# Altium footprint library MicromouseLib.PcbLib: 42 footprints (part 2 of 3)
Each footprint in its own frame and in the unit in brackets; x right, y up, seen from the top. Pads: shape width x height; smd on the part's side, far side on the other; paste and mask are expansions set on the pad; w line width, h text height; cw(c..) or ccw(c..) is an arc to the next point about the centre after c.
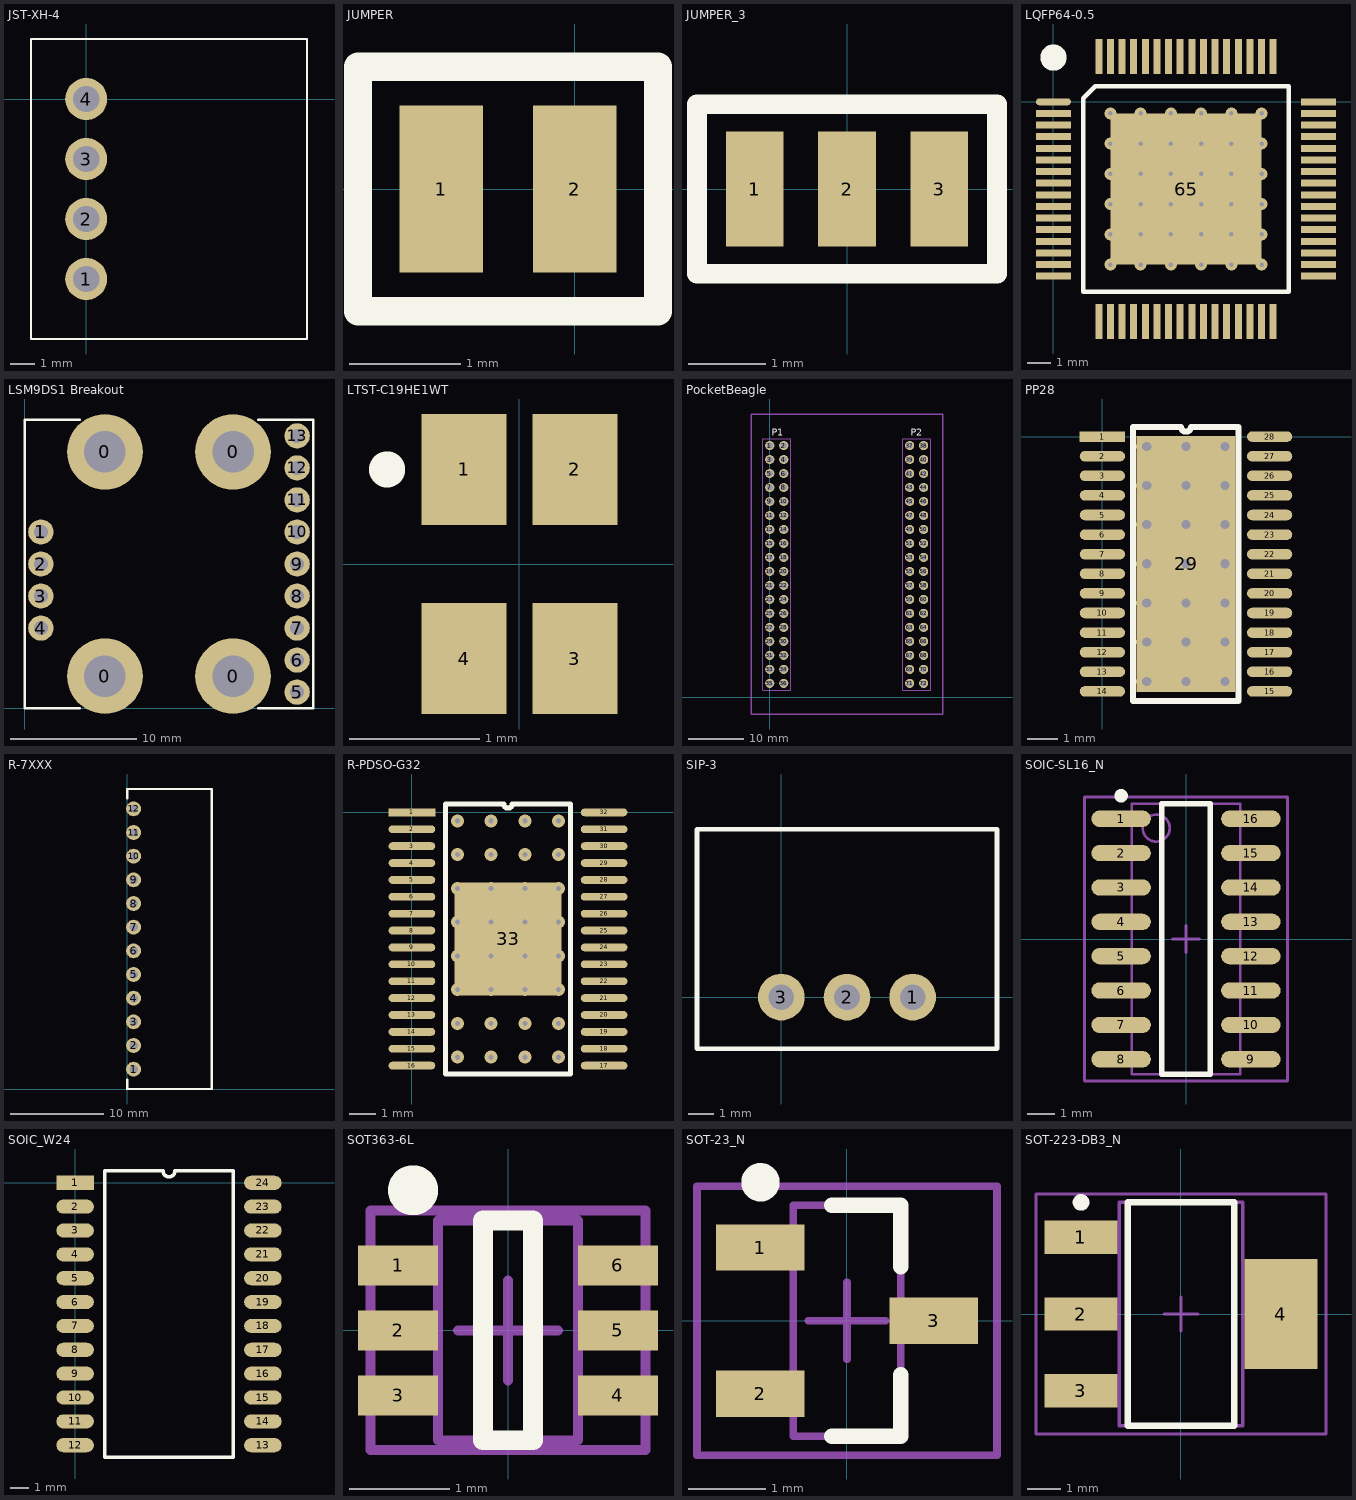
[diagram p1: the footprints below, top view; thin cyan lines are the x and y axes]

## JST-XH-4 [mm]
height 6.1
pads (4):
  round 1.75 hole 1.1: 1(0,-7.5) 2(0,-5) 3(0,-2.5) 4(0,0)
Top Overlay:
  lines w0.076: -2.3,-10 -2.3,2.5 9.2,2.5 9.2,-10 -2.3,-10
3D body "S4B-XH-A (WHITE).stp": height 6.15, standoff -3.4, extent -2.3,-9.951 9.2,2.449

## JUMPER [mm]
pads (2):
  rect 0.75x1.5 smd: 1(-1.2,0) 2(0,0)
Top Overlay:
  lines w0.254: -1.95,-1.1 -1.95,1.1 0.75,1.1 0.75,-1.1 -1.95,-1.1

## JUMPER_3 [mm]
pads (3):
  rect 0.75x1.5 smd: 1(-1.2,0) 2(0,0) 3(1.2,0)
Top Overlay:
  lines w0.254: -1.95,-1.1 -1.95,1.1 1.95,1.1 1.95,-1.1 -1.95,-1.1

## LQFP64-0.5 [mm]
pads (65):
  oval 1.5x0.3 smd: 1(0,0)
  rect 1.5x0.3 smd: 2(0,-0.5) 3(0,-1) 4(0,-1.5) 5(0,-2) 6(0,-2.5) 7(0,-3) 8(0,-3.5) 9(0,-4) 10(0,-4.5) 11(0,-5) 12(0,-5.5) 13(0,-6) 14(0,-6.5) 15(0,-7) 16(0,-7.5) 33(11.4,-7.5) 34(11.4,-7) 35(11.4,-6.5) 36(11.4,-6) 37(11.4,-5.5) 38(11.4,-5) 39(11.4,-4.5) 40(11.4,-4) 41(11.4,-3.5) 42(11.4,-3) 43(11.4,-2.5) 44(11.4,-2) 45(11.4,-1.5) 46(11.4,-1) 47(11.4,-0.5) 48(11.4,0)
  rect 0.3x1.5 smd: 17(1.95,-9.45) 18(2.45,-9.45) 19(2.95,-9.45) 20(3.45,-9.45) 21(3.95,-9.45) 22(4.45,-9.45) 23(4.95,-9.45) 24(5.45,-9.45) 25(5.95,-9.45) 26(6.45,-9.45) 27(6.95,-9.45) 28(7.45,-9.45) 29(7.95,-9.45) 30(8.45,-9.45) 31(8.95,-9.45) 32(9.45,-9.45) 49(9.45,1.95) 50(8.95,1.95) 51(8.45,1.95) 52(7.95,1.95) 53(7.45,1.95) 54(6.95,1.95) 55(6.45,1.95) 56(5.95,1.95) 57(5.45,1.95) 58(4.95,1.95) 59(4.45,1.95) 60(3.95,1.95) 61(3.45,1.95) 62(2.95,1.95) 63(2.45,1.95) 64(1.95,1.95)
  rect 6.5x6.5 all layers, no hole mask+0.75: 65(5.7,-3.75)
via 8.95,-0.5 diameter 0.508 hole 0.2
via 8.95,-1.8 diameter 0.508 hole 0.2
via 8.95,-3.1 diameter 0.508 hole 0.2
via 8.95,-4.4 diameter 0.508 hole 0.2
via 8.95,-5.7 diameter 0.508 hole 0.2
via 8.95,-7 diameter 0.508 hole 0.2
via 7.65,-7 diameter 0.508 hole 0.2
via 6.35,-7 diameter 0.508 hole 0.2
via 7.65,-5.7 diameter 0.508 hole 0.2
via 6.35,-5.7 diameter 0.508 hole 0.2
via 7.65,-4.4 diameter 0.508 hole 0.2
via 6.35,-4.4 diameter 0.508 hole 0.2
via 7.65,-3.1 diameter 0.508 hole 0.2
via 6.35,-3.1 diameter 0.508 hole 0.2
via 7.65,-1.8 diameter 0.508 hole 0.2
via 6.35,-1.8 diameter 0.508 hole 0.2
via 7.65,-0.5 diameter 0.508 hole 0.2
via 6.35,-0.5 diameter 0.508 hole 0.2
via 5.05,-4.4 diameter 0.508 hole 0.2
via 2.45,-7 diameter 0.508 hole 0.2
via 2.45,-5.7 diameter 0.508 hole 0.2
via 3.75,-4.4 diameter 0.508 hole 0.2
via 2.45,-4.4 diameter 0.508 hole 0.2
via 2.45,-3.1 diameter 0.508 hole 0.2
via 3.75,-7 diameter 0.508 hole 0.2
via 5.05,-7 diameter 0.508 hole 0.2
via 5.05,-5.7 diameter 0.508 hole 0.2
via 3.75,-5.7 diameter 0.508 hole 0.2
via 3.75,-3.1 diameter 0.508 hole 0.2
via 5.05,-3.1 diameter 0.508 hole 0.2
via 5.05,-1.8 diameter 0.508 hole 0.2
via 5.05,-0.5 diameter 0.508 hole 0.2
via 2.45,-1.8 diameter 0.508 hole 0.2
via 3.75,-1.8 diameter 0.508 hole 0.2
via 3.75,-0.5 diameter 0.508 hole 0.2
via 2.45,-0.5 diameter 0.508 hole 0.2
Top Overlay:
  circle w0.6: c0,1.9 r0.264
  lines w0.2: 1.285,-8.165 1.285,0.145 1.805,0.665 10.115,0.665 10.115,-8.165 1.285,-8.165
3D body: height 1.2, standoff 0, extent 0.6,-8.85 10.8,1.35

## LSM9DS1 Breakout [mm]
pads (17):
  round 6 hole 3.3: 0(6.35,2.54) 0(6.35,20.32) 0(16.51,2.54) 0(16.51,20.32)
  round 2 hole 1.1: 1(1.27,13.97) 2(1.27,11.43) 3(1.27,8.89) 4(1.27,6.35) 5(21.59,1.27) 6(21.59,3.81) 7(21.59,6.35) 8(21.59,8.89) 9(21.59,11.43) 10(21.59,13.97) 11(21.59,16.51) 12(21.59,19.05) 13(21.59,21.59)
Top Overlay:
  lines w0.2: 4.35,0 0,0 0,22.86 4.35,22.86 ; 18.51,0 22.86,0 22.86,22.86 18.51,22.86

## LTST-C19HE1WT [mm]
pads (4):
  rect 0.65x0.85 smd: 1(-0.425,0.725) 2(0.425,0.725) 3(0.425,-0.725) 4(-0.425,-0.725)
Top Overlay:
  circle w0.254: c-1.015,0.725 r0.011
3D body: height 0.18, standoff 0, extent -0.8,-0.8 0.8,0.8
3D body: height 0.18, standoff 0, extent -0.75,0.4 -0.1,0.8
3D body: height 0.18, standoff 0, extent 0.1,0.4 0.75,0.8
3D body: height 0.18, standoff 0, extent -0.75,-0.8 -0.1,-0.4
3D body: height 0.18, standoff 0, extent 0.1,-0.8 0.75,-0.4
3D body: height 0.35, standoff 0.18, extent -0.8,-0.575 0.8,0.575

## PocketBeagle [mil]
pads (72):
  round 65 hole 43.31: 1(0,1800) 2(100,1800) 3(0,1700) 4(100,1700) 5(0,1600) 6(100,1600) 7(0,1500) 8(100,1500) 9(0,1400) 10(100,1400) 11(0,1300) 12(100,1300) 13(0,1200) 14(100,1200) 15(0,1100) 16(100,1100) 17(0,1000) 18(100,1000) 19(0,900) 20(100,900) 21(0,800) 22(100,800) 23(0,700) 24(100,700) 25(0,600) 26(100,600) 27(0,500) 28(100,500) 29(0,400) 30(100,400) 31(0,300) 32(100,300) 33(0,200) 34(100,200) 35(0,100) 36(100,100) 37(1000,1800) 38(1100,1800) 39(1000,1700) 40(1100,1700) 41(1000,1600) 42(1100,1600) 43(1000,1500) 44(1100,1500) 45(1000,1400) 46(1100,1400) 47(1000,1300) 48(1100,1300) 49(1000,1200) 50(1100,1200) 51(1000,1100) 52(1100,1100) 53(1000,1000) 54(1100,1000) 55(1000,900) 56(1100,900) 57(1000,800) 58(1100,800) 59(1000,700) 60(1100,700) 61(1000,600) 62(1100,600) 63(1000,500) 64(1100,500) 65(1000,400) 66(1100,400) 67(1000,300) 68(1100,300) 69(1000,200) 70(1100,200) 71(1000,100) 72(1100,100)
Top Overlay:
  text "P2" at 1008,1870 h50
  text "P1" at 16,1870 h50
Top Outline:
  lines w5: -50,50 -50,1850 150,1850 150,50 -50,50 ; 950,50 950,1850 1150,1850 1150,50 950,50
  lines w10: -131.69,-119.09 -131.69,2025.39 1236.02,2025.39 1236.02,-119.09 -131.69,-119.09

## PP28 [mm]
pads (29):
  rect 1.5x0.35 smd: 1(0,0)
  oval 1.5x0.35 smd: 2(0,-0.65) 3(0,-1.3) 4(0,-1.95) 5(0,-2.6) 6(0,-3.25) 7(0,-3.9) 8(0,-4.55) 9(0,-5.2) 10(0,-5.85) 11(0,-6.5) 12(0,-7.15) 13(0,-7.8) 14(0,-8.45) 15(5.55,-8.45) 16(5.55,-7.8) 17(5.55,-7.15) 18(5.55,-6.5) 19(5.55,-5.85) 20(5.55,-5.2) 21(5.55,-4.55) 22(5.55,-3.9) 23(5.55,-3.25) 24(5.55,-2.6) 25(5.55,-1.95) 26(5.55,-1.3) 27(5.55,-0.65) 28(5.55,0)
  rect 3.3x8.5 all layers, no hole: 29(2.775,-4.225)
via 1.473,-0.33 diameter 0.7 hole 0.3
via 2.769,-0.33 diameter 0.7 hole 0.3
via 4.064,-0.33 diameter 0.7 hole 0.3
via 1.473,-1.626 diameter 0.7 hole 0.3
via 2.769,-1.626 diameter 0.7 hole 0.3
via 4.064,-1.626 diameter 0.7 hole 0.3
via 1.473,-2.921 diameter 0.7 hole 0.3
via 2.769,-2.921 diameter 0.7 hole 0.3
via 4.064,-2.921 diameter 0.7 hole 0.3
via 1.473,-4.216 diameter 0.7 hole 0.3
via 2.769,-4.216 diameter 0.7 hole 0.3
via 4.064,-4.216 diameter 0.7 hole 0.3
via 2.769,-5.512 diameter 0.7 hole 0.3
via 4.064,-5.512 diameter 0.7 hole 0.3
via 1.473,-6.807 diameter 0.7 hole 0.3
via 2.769,-6.807 diameter 0.7 hole 0.3
via 4.064,-6.807 diameter 0.7 hole 0.3
via 1.473,-8.128 diameter 0.7 hole 0.3
via 2.769,-8.128 diameter 0.7 hole 0.3
via 4.064,-8.128 diameter 0.7 hole 0.3
via 1.473,-5.512 diameter 0.7 hole 0.3
Top Overlay:
  lines w0.2: 1.016,-8.775 1.016,0.325 2.612,0.325 ccw(c2.775,0.325) 2.937,0.325 4.521,0.325 4.521,-8.775 1.016,-8.775
Top Solder:
  rectangle: 1,-8.74 4.55,0.325
Bottom Solder:
  rectangle: 1,-8.74 4.55,0.325
3D body: height 1.2, standoff 0, extent 0.525,-9.125 5.025,0.675

## R-7XXX [mm] "The R-7XXX series is a high performance 2.5V to 15V , 2Amp to 4Amp,12-Pin SIP (single in-line package),  Integrated switching regulator (ISR). The Synchronous - rectified design yields excellent efficiencies up to 97%.  Short circuit protection reduces the short circuit input current to under 50mA."
height 15
pads (12):
  round 1.6 hole 0.9: 1(0.7,2.13) 2(0.7,4.67) 3(0.7,7.21) 4(0.7,9.75) 5(0.7,12.29) 6(0.7,14.83) 7(0.7,17.37) 8(0.7,19.91) 9(0.7,22.45) 10(0.7,24.99) 11(0.7,27.53) 12(0.7,30.07)
Top Overlay:
  lines w0.254: 0,1 0,0 9.1,0 9.1,32.2 0,32.2 0,31.2
3D body: height 15, standoff 0, extent 0,0 9.1,32.2

## R-PDSO-G32 [mm]
pads (33):
  rect 1.8x0.3 smd: 1(0,0)
  oval 1.8x0.3 smd: 2(0,-0.65) 3(0,-1.3) 4(0,-1.95) 5(0,-2.6) 6(0,-3.25) 7(0,-3.9) 8(0,-4.55) 9(0,-5.2) 10(0,-5.85) 11(0,-6.5) 12(0,-7.15) 13(0,-7.8) 14(0,-8.45) 15(0,-9.1) 16(0,-9.75) 17(7.4,-9.75) 18(7.4,-9.1) 19(7.4,-8.45) 20(7.4,-7.8) 21(7.4,-7.15) 22(7.4,-6.5) 23(7.4,-5.85) 24(7.4,-5.2) 25(7.4,-4.55) 26(7.4,-3.9) 27(7.4,-3.25) 28(7.4,-2.6) 29(7.4,-1.95) 30(7.4,-1.3) 31(7.4,-0.65) 32(7.4,0)
  rect 4.11x4.36 all layers, no hole: 33(3.7,-4.875)
via 5.65,-6.825 diameter 0.5 hole 0.2
via 4.35,-6.825 diameter 0.5 hole 0.2
via 3.05,-6.825 diameter 0.5 hole 0.2
via 1.75,-6.825 diameter 0.5 hole 0.2
via 5.65,-5.525 diameter 0.5 hole 0.2
via 4.35,-5.525 diameter 0.5 hole 0.2
via 3.05,-5.525 diameter 0.5 hole 0.2
via 1.75,-5.525 diameter 0.5 hole 0.2
via 5.65,-4.225 diameter 0.5 hole 0.2
via 4.35,-4.225 diameter 0.5 hole 0.2
via 3.05,-4.225 diameter 0.5 hole 0.2
via 1.75,-4.225 diameter 0.5 hole 0.2
via 5.65,-2.925 diameter 0.5 hole 0.2
via 4.35,-2.925 diameter 0.5 hole 0.2
via 3.05,-2.925 diameter 0.5 hole 0.2
via 1.75,-2.925 diameter 0.5 hole 0.2
via 5.65,-1.625 diameter 0.5 hole 0.2
via 4.35,-1.625 diameter 0.5 hole 0.2
via 3.05,-1.625 diameter 0.5 hole 0.2
via 1.75,-1.625 diameter 0.5 hole 0.2
via 5.65,-0.325 diameter 0.5 hole 0.2
via 4.35,-0.325 diameter 0.5 hole 0.2
via 3.05,-0.325 diameter 0.5 hole 0.2
via 1.75,-0.325 diameter 0.5 hole 0.2
via 1.75,-8.125 diameter 0.5 hole 0.2
via 3.05,-8.125 diameter 0.5 hole 0.2
via 4.35,-8.125 diameter 0.5 hole 0.2
via 5.65,-8.125 diameter 0.5 hole 0.2
via 1.75,-9.425 diameter 0.5 hole 0.2
via 3.05,-9.425 diameter 0.5 hole 0.2
via 4.35,-9.425 diameter 0.5 hole 0.2
via 5.65,-9.425 diameter 0.5 hole 0.2
Top Overlay:
  lines w0.2: 1.295,-10.075 6.11,-10.075 6.11,0.325 3.862,0.325 cw(c3.7,0.325) 3.538,0.325 1.295,0.325 1.295,-10.075

## SIP-3 [mm]
height 17.5
pads (3):
  round 1.8 hole 1: 1(5.08,0) 2(2.54,0) 3(0,0)
Top Overlay:
  lines w0.178: -3.26,-2 -3.26,6.5 8.34,6.5 8.34,-2 -3.26,-2
3D body: height 10.4, standoff 0.5, extent -3.26,-2 8.34,6.5

## SOIC-SL16_N [mm] "SOIC, 16-Leads, Body 9.9x3.9mm, Pitch 1.27mm, IPC Medium Density"
height 1.75
pads (16):
  oval 2.2x0.6 smd: 1(-2.4,4.445) 2(-2.4,3.175) 3(-2.4,1.905) 4(-2.4,0.635) 5(-2.4,-0.635) 6(-2.4,-1.905) 7(-2.4,-3.175) 8(-2.4,-4.445) 9(2.4,-4.445) 10(2.4,-3.175) 11(2.4,-1.905) 12(2.4,-0.635) 13(2.4,0.635) 14(2.4,1.905) 15(2.4,3.175) 16(2.4,4.445)
Top Overlay:
  circle w0.25: c-2.4,5.295 r0.125
  lines w0.2: -0.9,-5 0.9,-5 0.9,5 -0.9,5 -0.9,-5
Top Outline:
  circle w0.1: c-1.1,4.1 r0.5
  lines w0.1: -2,-5 2,-5 2,5 -2,5 -2,-5
Top Courtyard:
  lines w0.1: -0.5,0 0.5,0 ; 0,-0.5 0,0.5 ; -3.75,-5.25 3.75,-5.25 3.75,5.25 -3.75,5.25 -3.75,-5.25
3D body: height 1.75, standoff 0, extent -2,-5 2,5

## SOIC_W24 [mm]
height 2.7
pads (24):
  rect 2x0.75 smd: 1(0,0)
  oval 2x0.75 smd: 2(0,-1.27) 3(0,-2.54) 4(0,-3.81) 5(0,-5.08) 6(0,-6.35) 7(0,-7.62) 8(0,-8.89) 9(0,-10.16) 10(0,-11.43) 11(0,-12.7) 12(0,-13.97) 13(10,-13.97) 14(10,-12.7) 15(10,-11.43) 16(10,-10.16) 17(10,-8.89) 18(10,-7.62) 19(10,-6.35) 20(10,-5.08) 21(10,-3.81) 22(10,-2.54) 23(10,-1.27) 24(10,0)
Top Overlay:
  lines w0.2: 1.585,-14.605 8.415,-14.605 8.415,0.635 5.318,0.635 cw(c5,0.635) 4.683,0.635 1.585,0.635 1.585,-14.605

## SOT363-6L [mm] "SOT363, 6-Leads, Body 2x1.3mm, Pitch 0.65mm, Lead Span 2.1mm, IPC High Density"
height 1
pads (6):
  rect 0.8x0.4 smd: 1(-1.1,0.65) 2(-1.1,0) 3(-1.1,-0.65) 4(1.1,-0.65) 5(1.1,0) 6(1.1,0.65)
Top Overlay:
  circle w0.25: c-0.95,1.4 r0.125
  lines w0.2: -0.25,-1.1 -0.25,1.1 0.25,1.1 0.25,-1.1 -0.25,-1.1
Top Outline:
  lines w0.1: -0.7,-1.1 0.7,-1.1 0.7,1.1 -0.7,1.1 -0.7,-1.1
Top Courtyard:
  lines w0.1: -0.5,0 0.5,0 ; 0,-0.5 0,0.5 ; -1.375,-1.2 1.375,-1.2 1.375,1.2 -1.375,1.2 -1.375,-1.2
3D body: height 1, standoff 0, extent -0.7,-1.1 0.7,1.1
3D body "sot363.STEP": height 1, standoff 0, extent -1.15,-1.05 1.15,1.05

## SOT-23_N [mm] "SOT23, 3-Leads, Body 2.9x1.3mm, Pitch 0.95mm, Lead Span 2.5mm, IPC Medium Density"
height 1.1
pads (3):
  rect 1.15x0.6 smd: 1(-1.125,0.95) 2(-1.125,-0.95) 3(1.125,0)
Top Overlay:
  circle w0.25: c-1.125,1.8 r0.125
  lines w0.2: -0.2,-1.5 0.7,-1.5 0.7,-0.7 ; -0.2,1.5 0.7,1.5 0.7,0.7
Top Outline:
  lines w0.1: -0.7,-1.5 -0.7,1.5 0.7,1.5 0.7,-1.5 -0.7,-1.5
Top Courtyard:
  lines w0.1: -0.5,0 0.5,0 ; 0,-0.5 0,0.5 ; -1.95,-1.75 -1.95,1.75 1.95,1.75 1.95,-1.75 -1.95,-1.75
3D body: height 1.1, standoff 0, extent -0.7,-1.5 0.7,1.5

## SOT-223-DB3_N [mm] "SOT223, 4-Leads, Body 6.5x3.5mm, Pitch 2.3mm, Lead Span 7mm, IPC Medium Density"
height 1.8
pads (4):
  rect 2.2x1 smd: 1(-3,2.3) 2(-3,0) 3(-3,-2.3)
  rect 2.2x3.3 smd: 4(3,0)
Top Overlay:
  circle w0.25: c-3,3.35 r0.125
  lines w0.2: -1.6,-3.35 1.6,-3.35 1.6,3.35 -1.6,3.35 -1.6,-3.35
Top Outline:
  lines w0.1: -1.85,-3.35 1.85,-3.35 1.85,3.35 -1.85,3.35 -1.85,-3.35
Top Courtyard:
  lines w0.1: -0.5,0 0.5,0 ; 0,-0.5 0,0.5 ; -4.35,-3.6 4.35,-3.6 4.35,3.6 -4.35,3.6 -4.35,-3.6
3D body: height 1.8, standoff 0, extent -1.85,-3.35 1.85,3.35